# Altium footprint library 常用元件.PcbLib: 186 footprints (part 10 of 12)
Each footprint in its own frame and in the unit in brackets; x right, y up, seen from the top. Pads: shape width x height; smd on the part's side, far side on the other; paste and mask are expansions set on the pad; w line width, h text height; cw(c..) or ccw(c..) is an arc to the next point about the centre after c.
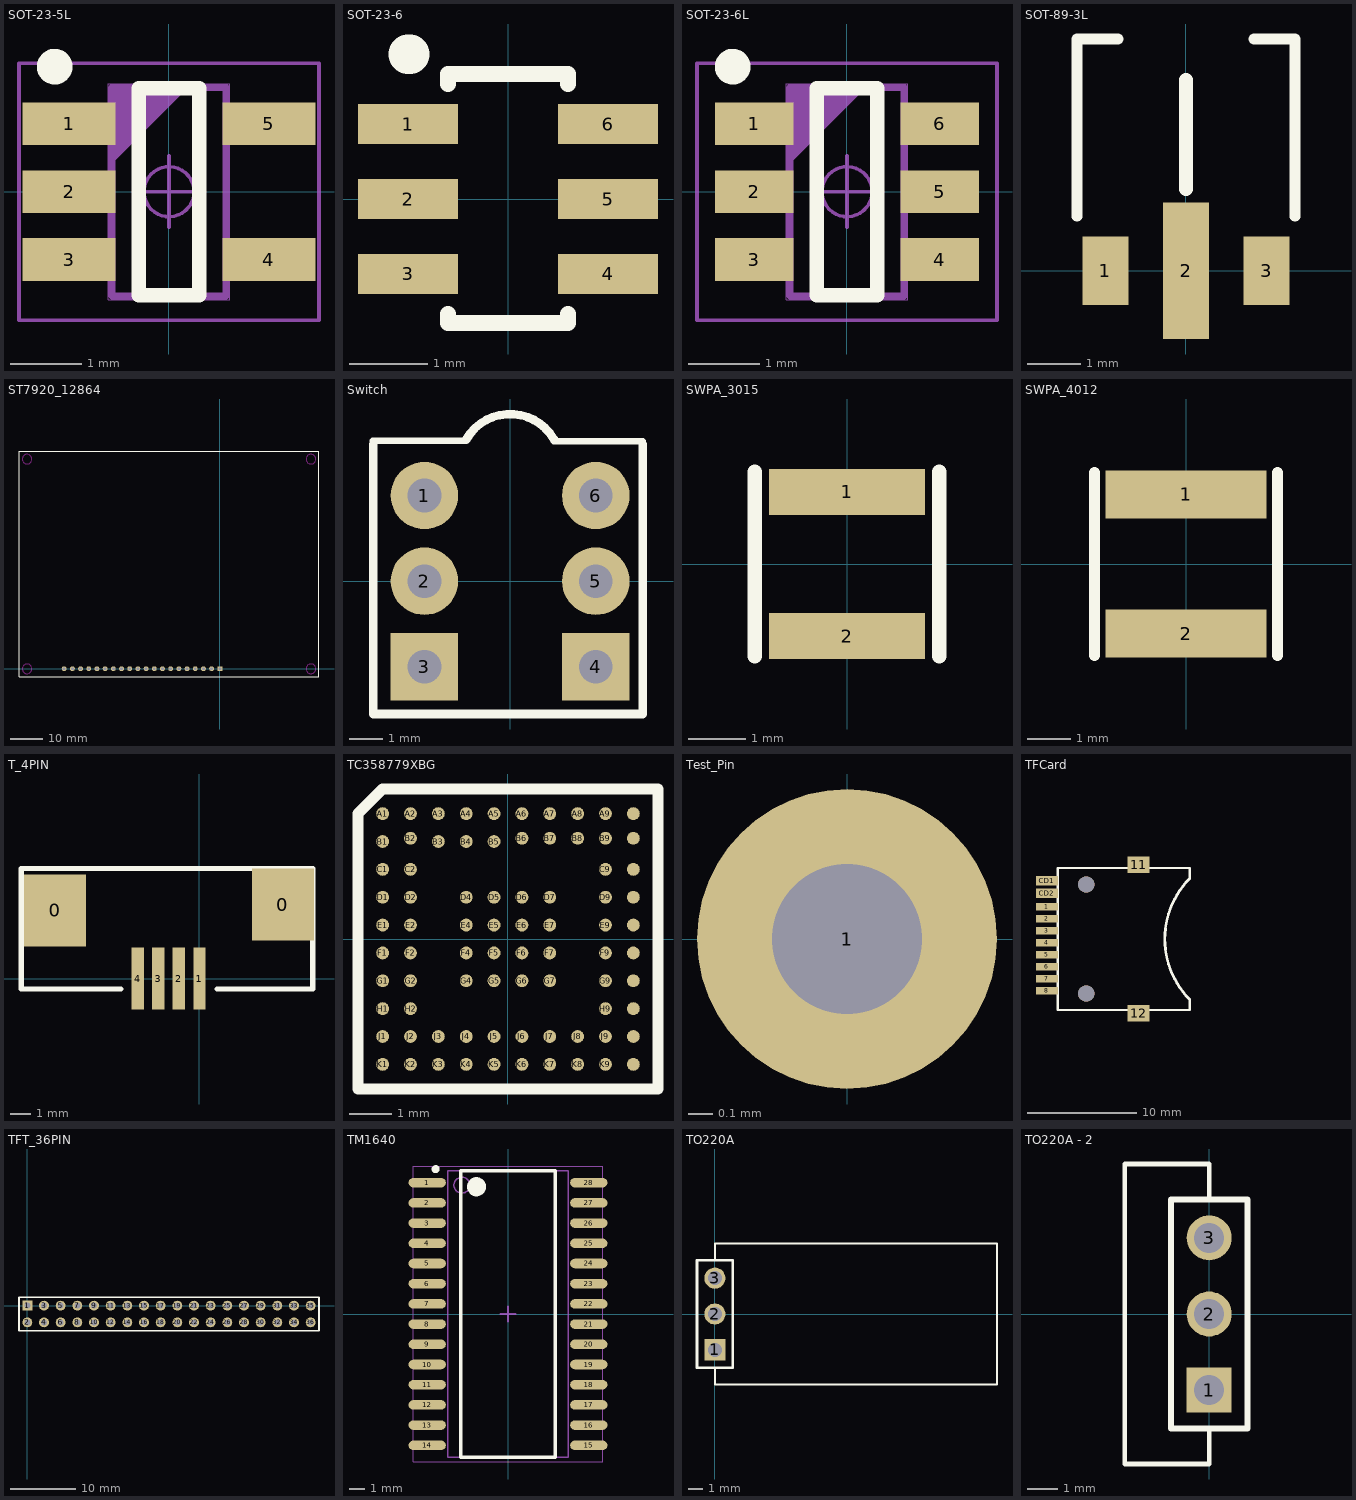
[diagram p9: the footprints below, top view; thin cyan lines are the x and y axes]

## SOT-23-5L [mm]
pads (5):
  rect 1.3x0.6 smd: 1(-1.4,0.95) 2(-1.4,0) 3(-1.4,-0.95) 4(1.4,-0.95) 5(1.4,0.95)
Top Overlay:
  circle w0.25: c-1.6,1.75 r0.125
  lines w0.2: -0.425,-1.45 -0.425,1.45 0.425,1.45 0.425,-1.45 -0.425,-1.45
Mechanical 15:
  lines w0.1: -0.8,0.46 0.2,1.46 ; -0.8,0.56 0.1,1.46 ; -0.8,0.66 0,1.46 ; -0.8,0.76 -0.1,1.46 ; -0.8,0.86 -0.2,1.46 ; -0.8,0.96 -0.3,1.46 ; -0.8,1.06 -0.4,1.46 ; -0.8,1.16 -0.5,1.46 ; -0.8,1.26 -0.6,1.46 ; -0.8,1.36 -0.7,1.46 ; -0.8,-1.46 -0.8,1.46 0.8,1.46 0.8,-1.46 -0.8,-1.46
  text "1" at 0.45,-0.164 h0.75
Mechanical 16:
  circle w0.05: c0,0 r0.35
  lines w0.001: -0.85,-1.51 -0.85,1.51 0.85,1.51 0.85,-1.51 -0.85,-1.51
  lines w0.05: -0.5,0 0.5,0 ; 0,-0.5 0,0.5 ; -2.1,-1.8 -2.1,1.8 2.1,1.8 2.1,-1.8 -2.1,-1.8

## SOT-23-6 [mil]
pads (6):
  rect 50x20 smd: 1(-50,37.4) 2(-50,0) 3(-50,-37.4) 4(50,-37.4) 5(50,0) 6(50,37.4)
Top Overlay:
  lines w8: -30,-57.6 -30,-61.92 30,-61.92 30,-57.6 ; -30,57.4 -30,62.4 30,62.4 30,57.4
  lines w19.68: -50,72.4 -49,72.4

## SOT-23-6L [mm]
pads (6):
  rect 1.1x0.6 smd: 1(-1.3,0.95) 2(-1.3,0) 3(-1.3,-0.95) 4(1.3,-0.95) 5(1.3,0) 6(1.3,0.95)
Top Overlay:
  circle w0.25: c-1.6,1.75 r0.125
  lines w0.2: -0.425,-1.45 -0.425,1.45 0.425,1.45 0.425,-1.45 -0.425,-1.45
Mechanical 15:
  lines w0.1: -0.8,0.46 0.2,1.46 ; -0.8,0.56 0.1,1.46 ; -0.8,0.66 0,1.46 ; -0.8,0.76 -0.1,1.46 ; -0.8,0.86 -0.2,1.46 ; -0.8,0.96 -0.3,1.46 ; -0.8,1.06 -0.4,1.46 ; -0.8,1.16 -0.5,1.46 ; -0.8,1.26 -0.6,1.46 ; -0.8,1.36 -0.7,1.46 ; -0.8,-1.46 -0.8,1.46 0.8,1.46 0.8,-1.46 -0.8,-1.46
  text "1" at 0.45,-0.164 h0.75
Mechanical 16:
  circle w0.05: c0,0 r0.35
  lines w0.001: -0.85,-1.51 -0.85,1.51 0.85,1.51 0.85,-1.51 -0.85,-1.51
  lines w0.05: -0.5,0 0.5,0 ; 0,-0.5 0,0.5 ; -2.1,-1.8 -2.1,1.8 2.1,1.8 2.1,-1.8 -2.1,-1.8

## SOT-89-3L [mil]
pads (3):
  rect 34x50 smd: 1(-59.05,0) 3(59.06,0)
  rect 34x100 smd: 2(0,0)
Top Overlay:
  lines w8: -80,40 -80,170 -50,170 ; 50,170 80,170 80,40
  lines w10: 0,60 0,140

## ST7920_12864 [mm]
pads (20):
  rect 1.5x1.5 hole 0.9: 1(0,0)
  round 1.5 hole 0.9: 2(-2.54,0) 3(-5.08,0) 4(-7.62,0) 5(-10.16,0) 6(-12.7,0) 7(-15.24,0) 8(-17.78,0) 9(-20.32,0) 10(-22.86,0) 11(-25.4,0) 12(-27.94,0) 13(-30.48,0) 14(-33.02,0) 15(-35.56,0) 16(-38.1,0) 17(-40.64,0) 18(-43.18,0) 19(-45.72,0) 20(-48.26,0)
Top Overlay:
  lines w0.254: -62.26,-2.54 30.74,-2.54 30.74,67.46 -62.26,67.46 -62.26,-2.54
Keep-Out Layer:
  circle w0.254: c28.24,64.96 r1.5
  circle w0.254: c28.24,-0.04 r1.5
  circle w0.254: c-59.76,-0.04 r1.5
  circle w0.254: c-59.76,64.96 r1.5

## Switch [mm]
pads (6):
  round 2 hole 1: 1(-2.54,2.54) 2(-2.54,0) 5(2.54,0) 6(2.54,2.54)
  rect 2x2 hole 1: 3(-2.54,-2.54) 4(2.54,-2.54)
Top Overlay:
  lines w0.2: -4.064,4.164 -1.752,4.164 -1.366,4.164 ; 1.302,4.148 3.921,4.148
  lines w0.254: -4.064,4.064 -4.064,-3.937 3.937,-3.937 3.937,4.064 ; -1.302,4.2 cw(c0,3.456) 1.302,4.2

## SWPA_3015 [mm]
pads (2):
  rect 2.7x0.8 smd: 1(0,1.25) 2(0,-1.25)
Top Overlay:
  lines w0.254: -1.6,-1.6 -1.6,1.6 ; 1.6,-1.6 1.6,1.6

## SWPA_4012 [mm]
pads (2):
  rect 3.7x1.1 smd: 1(0,1.6) 2(0,-1.6)
Top Overlay:
  lines w0.254: -2.1,-2.1 -2.1,2.1 ; 2.1,-2.1 2.1,2.1

## T_4PIN [mm]
pads (6):
  rect 3x3.5 smd: 0(-7,3.302) 0(4.047,3.589)
  rect 0.6x3 smd: 1(0,0) 2(-1,0) 3(-2,0) 4(-3,0)
Top Overlay:
  lines w0.254: -3.81,-0.508 -8.636,-0.508 -8.636,5.334 5.494,5.334 5.494,-0.508 0.847,-0.511

## TC358779XBG [mm]
pads (80):
  round 0.3 smd: A1(-2.925,2.925) A2(-2.275,2.925) A3(-1.625,2.925) A4(-0.975,2.925) A5(-0.325,2.925) A6(0.325,2.925) A7(0.975,2.925) A8(1.625,2.925) A9(2.275,2.925) A10(2.925,2.925) B1(-2.925,2.275) B2(-2.275,2.35) B3(-1.625,2.275) B4(-0.975,2.275) B5(-0.325,2.275) B6(0.325,2.35) B7(0.975,2.35) B8(1.625,2.35) B9(2.275,2.35) B10(2.925,2.35) C1(-2.925,1.625) C2(-2.275,1.625) C9(2.275,1.625) C10(2.925,1.625) D1(-2.925,0.975) D2(-2.275,0.975) D4(-0.975,0.975) D5(-0.325,0.975) D6(0.325,0.975) D7(0.975,0.975) D9(2.275,0.975) D10(2.925,0.975) E1(-2.925,0.325) E2(-2.275,0.325) E4(-0.975,0.325) E5(-0.325,0.325) E6(0.325,0.325) E7(0.975,0.325) E9(2.275,0.325) E10(2.925,0.325) F1(-2.925,-0.325) F2(-2.275,-0.325) F4(-0.975,-0.325) F5(-0.325,-0.325) F6(0.325,-0.325) F7(0.975,-0.325) F9(2.275,-0.325) F10(2.925,-0.325) G1(-2.925,-0.975) G2(-2.275,-0.975) G4(-0.975,-0.975) G5(-0.325,-0.975) G6(0.325,-0.975) G7(0.975,-0.975) G9(2.275,-0.975) G10(2.925,-0.975) H1(-2.925,-1.625) H2(-2.275,-1.625) H9(2.275,-1.625) H10(2.925,-1.625) J1(-2.925,-2.275) J2(-2.275,-2.275) J3(-1.625,-2.275) J4(-0.975,-2.275) J5(-0.325,-2.275) J6(0.325,-2.275) J7(0.975,-2.275) J8(1.625,-2.275) J9(2.275,-2.275) J10(2.925,-2.275) K1(-2.925,-2.925) K2(-2.275,-2.925) K3(-1.625,-2.925) K4(-0.975,-2.925) K5(-0.325,-2.925) K6(0.325,-2.925) K7(0.975,-2.925) K8(1.625,-2.925) K9(2.275,-2.925) K10(2.925,-2.925)
Top Overlay:
  lines w0.254: -3.5,-3.5 -3.5,2.925 -2.925,3.5 3.5,3.5 3.5,-3.5 -3.5,-3.5

## Test_Pin [mil]
pads (1):
  round 48 hole 24: 1(0,0)

## TFCard [mm]
pads (14):
  rect 2x0.7 smd: 1(-1256.547,-1255.137) 2(-1256.547,-1256.237) 3(-1256.547,-1257.337) 4(-1256.547,-1258.437) 5(-1256.547,-1259.537) 6(-1256.547,-1260.637) 7(-1256.547,-1261.737) 8(-1256.547,-1262.837)
  rect 2x1.5 smd: 11(-1248.147,-1251.267) 12(-1248.147,-1264.907)
  rect 2x0.85 smd: CD1(-1256.547,-1252.737) CD2(-1256.547,-1253.887)
  round 1.5 hole 1.5 unplated: ""(-1252.947,-1263.087)
  round 1.5 hole 1.5: ""(-1252.947,-1253.087)
Top Overlay:
  lines w0.2: -1243.447,-1263.637 -1243.447,-1264.602 -1255.547,-1264.602 -1255.547,-1251.572 -1243.447,-1251.572 -1243.447,-1252.537
  lines w0.254: -1243.447,-1263.637 cw(c-1237.897,-1258.087) -1243.447,-1252.537

## TFT_36PIN [mm]
pads (36):
  rect 1.5x1.5 hole 0.9: 1(0,0)
  round 1.5 hole 0.9: 2(0,-2.54) 3(2.54,0) 4(2.54,-2.54) 5(5.08,0) 6(5.08,-2.54) 7(7.62,0) 8(7.62,-2.54) 9(10.16,0) 10(10.16,-2.54) 11(12.7,0) 12(12.7,-2.54) 13(15.24,0) 14(15.24,-2.54) 15(17.78,0) 16(17.78,-2.54) 17(20.32,0) 18(20.32,-2.54) 19(22.86,0) 20(22.86,-2.54) 21(25.4,0) 22(25.4,-2.54) 23(27.94,0) 24(27.94,-2.54) 25(30.48,0) 26(30.48,-2.54) 27(33.02,0) 28(33.02,-2.54) 29(35.56,0) 30(35.56,-2.54) 31(38.1,0) 32(38.1,-2.54) 33(40.64,0) 34(40.64,-2.54) 35(43.18,0) 36(43.18,-2.54)
Top Overlay:
  lines w0.254: -1.27,-3.81 44.45,-3.81 44.45,1.27 -1.27,1.27 -1.27,-3.81

## TM1640 [mm] "SOP, 28-Leads, Body 17.93x7.52mm, Pitch 1.27mm, IPC Medium Density"
height 2.65
pads (28):
  oval 2.35x0.6 smd: 1(-5.08,8.255) 2(-5.08,6.985) 3(-5.08,5.715) 4(-5.08,4.445) 5(-5.08,3.175) 6(-5.08,1.905) 7(-5.08,0.635) 8(-5.08,-0.635) 9(-5.08,-1.905) 10(-5.08,-3.175) 11(-5.08,-4.445) 12(-5.08,-5.715) 13(-5.08,-6.985) 14(-5.08,-8.255) 15(5.08,-8.255) 16(5.08,-6.985) 17(5.08,-5.715) 18(5.08,-4.445) 19(5.08,-3.175) 20(5.08,-1.905) 21(5.08,-0.635) 22(5.08,0.635) 23(5.08,1.905) 24(5.08,3.175) 25(5.08,4.445) 26(5.08,5.715) 27(5.08,6.985) 28(5.08,8.255)
Top Overlay:
  circle w0.6: c-1.975,8 r0.3
  circle w0.25: c-4.55,9.105 r0.125
  lines w0.2: -2.975,-9 2.975,-9 2.975,9 -2.975,9 -2.975,-9
Mechanical 13:
  circle w0.1: c-2.9,8.1 r0.5
  lines w0.1: -3.8,-9 3.8,-9 3.8,9 -3.8,9 -3.8,-9
Mechanical 15:
  lines w0.05: -5.95,-9.3 5.95,-9.3 5.95,9.3 -5.95,9.3 -5.95,-9.3
  lines w0.1: -0.5,0 0.5,0 ; 0,-0.5 0,0.5
3D body: height 2.65, standoff 0.1, extent -3.8,-9 3.8,9

## TO220A [mm]
pads (3):
  rect 1.5x1.5 hole 1: 1(0,-2.54)
  round 1.5 hole 1: 2(0,0) 3(0,2.54)
Top Overlay:
  lines w0.152: 0,-3.81 0,-5 20,-5 20,5 0,5 0,3.81
  lines w0.2: -1.27,-3.81 -1.27,3.81 1.27,3.81 1.27,-3.81 -1.27,-3.81

## TO220A - 2 [mm]
pads (3):
  rect 1.5x1.5 hole 1: 1(0,-2.54)
  round 1.5 hole 1: 2(0,0) 3(0,2.54)
Top Overlay:
  lines w0.152: 0,-3.81 0,-5 -2.819,-5 -2.819,5 0,5 0,3.81
  lines w0.2: -1.27,-3.81 -1.27,3.81 1.27,3.81 1.27,-3.81 -1.27,-3.81